# Altium schematic symbol library MFR-25FBF52-470R1_MFR-25FBF52-470R.SCHLIB: 1 symbol
Pins are listed as number, name and electrical type; pins without a type are passive.

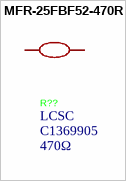
[diagram p0: symbol MFR-25FBF52-470R]

## MFR-25FBF52-470R
designator R??, comment Supplier Part: C1369905  Supplier: LCSC  (hidden comment: 470Ω)
Manufacturer: YAGEO(国巨); Symbol: MFR-25FBF52-470R; Add into BOM: yes; Tolerance: ±1%; Power(Watts): 250mW; Temperature Coefficient: ±100ppm/℃; Device: MFR-25FBF52-470R; LCSC Part Name: 金属膜电阻 470Ω ±1% 250mW; Manufacturer Part: MFR-25FBF52-470R; Supplier Footprint: 插件,D2.4xL6.3mm; JLCPCB Part Class: Extended Part; Datasheet: https://item.szlcsc.com/datasheet/MFR-25FBF52-470R/1460194.html; Convert to PCB: yes; Type: Metal Film Resistor; Operating Temperature: -55℃~+155℃; Value: 470Ω
footprint RES-TH_BD2.4-L6.3-P10.30-D0.6
3D model RES-TH_BD2.4-L6.3-P10.30-D0.6
pins: 1, 2